# Altium footprint library jump-0r-smd.PCBLIB: 3 footprints
Each footprint in its own frame and in the unit in brackets; x right, y up, seen from the top. Pads: shape width x height; smd on the part's side, far side on the other; paste and mask are expansions set on the pad; w line width, h text height; cw(c..) or ccw(c..) is an arc to the next point about the centre after c.
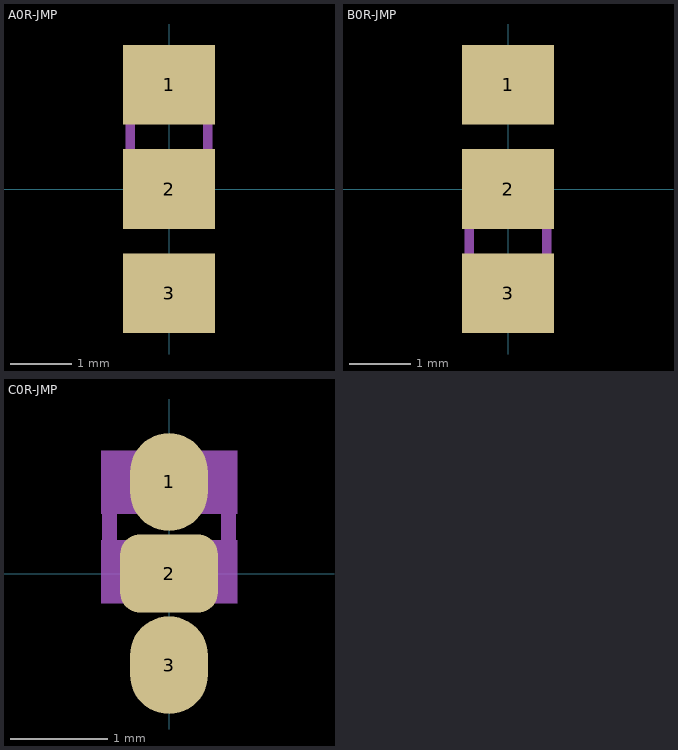
[diagram p0: the footprints below, top view; thin cyan lines are the x and y axes]

## A0R-JMP [mm]
pads (3):
  rect 1.5x1.3 smd: 1(0,1.7) 2(0,0) 3(0,-1.7)
Mechanical 6:
  rectangle: -0.2,-0.5 0.2,0.5
Mechanical 16:
  region: -0.699,0.444 -0.699,-0.206 0.701,-0.206 0.701,0.444
  region: -0.699,1.917 -0.699,1.267 0.701,1.267 0.701,1.917
  lines w0.152: -0.635,0.44 -0.635,1.26 ; 0.635,0.44 0.635,1.26

## B0R-JMP [mm]
pads (3):
  rect 1.5x1.3 smd: 1(0,1.7) 2(0,0) 3(0,-1.7)
Mechanical 16:
  region: -0.699,-1.256 -0.699,-1.906 0.701,-1.906 0.701,-1.256
  region: -0.699,0.217 -0.699,-0.433 0.701,-0.433 0.701,0.217
  lines w0.152: -0.635,-1.26 -0.635,-0.44 ; 0.635,-1.26 0.635,-0.44

## C0R-JMP [mm]
pads (3):
  rrect100% 0.8x1 smd: 1(0,0.938) 3(0,-0.938)
  rrect50% 1x0.8 smd: 2(0,0)
Mechanical 16:
  region: -0.699,0.344 -0.699,-0.306 0.701,-0.306 0.701,0.344
  region: -0.699,1.259 -0.699,0.609 0.701,0.609 0.701,1.259
  lines w0.152: -0.61,0.34 -0.61,0.66 ; 0.61,0.34 0.61,0.66